# Altium schematic symbol library TLC2272.SchLib: 2 symbols
Pins are listed as number, name and electrical type; pins without a type are passive.

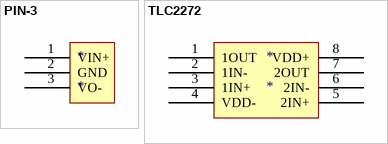
[diagram p0: symbols PIN-3 to TLC2272]

## PIN-3
designator *
pins: 1 VIN+, 2 GND, 3 VO-

## TLC2272
designator *
pins: 1 1OUT, 2 1IN-, 3 1IN+, 4 VDD-, 5 2IN+, 6 2IN-, 7 2OUT, 8 VDD+